# EAGLE library part MSP430G2230 (library ElevenDroids - ICs)
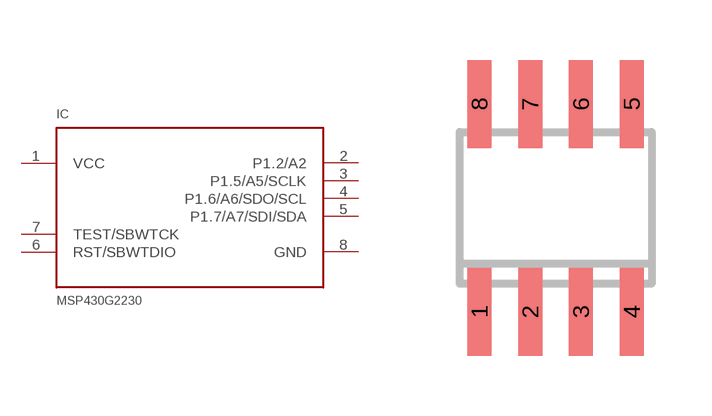
[diagram p16: symbol with the pads of SO08; footprint SO08]

Designator prefix IC

## MSP430G2230ID  [SO08]
1  VCC  pwr
2  P1.2/A2
3  P1.5/A5/SCLK
4  P1.6/A6/SDO/SCL
5  P1.7/A7/SDI/SDA
6  RST/SBWTDIO
7  TEST/SBWTCK
8  GND  pwr

## Footprint SO08 (pad centres in mm)
Small Outline Package 8 NS Package M08A
smd 0.6 x 2.2: 1 -1.905,-2.6; 2 -0.635,-2.6; 3 0.635,-2.6; 4 1.905,-2.6; 5 1.905,2.6; 6 0.635,2.6; 7 -0.635,2.6; 8 -1.905,2.6